# Altium footprint library DiPho_lib.PcbLib: 19 footprints (part 1 of 2)
Each footprint in its own frame and in the unit in brackets; x right, y up, seen from the top. Pads: shape width x height; smd on the part's side, far side on the other; paste and mask are expansions set on the pad; w line width, h text height; cw(c..) or ccw(c..) is an arc to the next point about the centre after c.
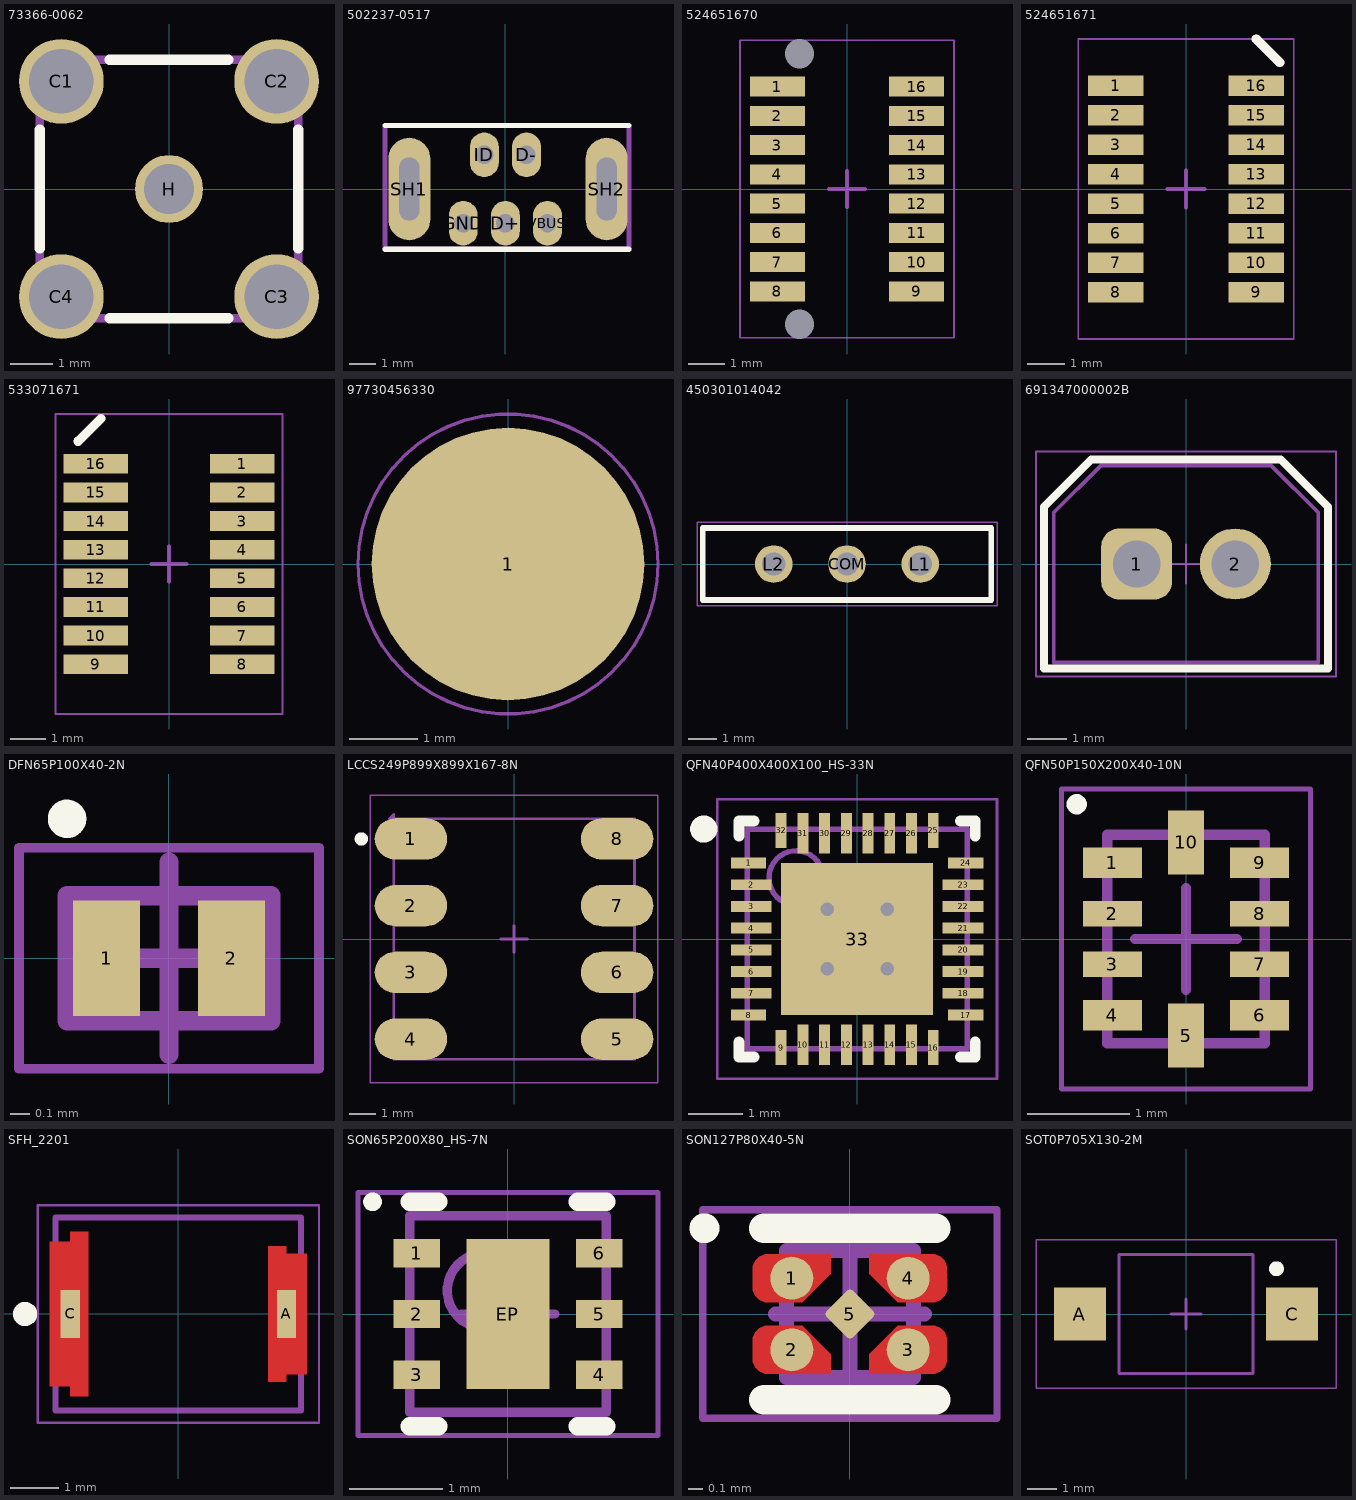
[diagram p0: the footprints below, top view; thin cyan lines are the x and y axes]

## 73366-0062 [mm] "MCX jack vertical PCB TH 50 ohms"
pads (5):
  round 2 hole 1.52: C1(-2.54,2.54) C2(2.54,2.54) C3(2.54,-2.54) C4(-2.54,-2.54)
  round 1.6 hole 1.17: H(0,0)
Top Overlay:
  lines w0.254: -3.048,-1.397 -3.048,1.397 ; -1.397,-3.048 1.397,-3.048 ; -1.397,3.048 1.397,3.048 ; 3.048,-1.397 3.048,1.397
Top Courtyard:
  lines w0.2: -3.048,-3.048 3.048,-3.048 3.048,3.048 -3.048,3.048 -3.048,-3.048
3D body "733660060.stp": height 5.6, standoff -1.56, extent -3,-3 3,3

## 502237-0517 [mm] "USB series mini-B straight receptacle assembly"
pads (7):
  rrect100% 1.1x1.7 hole 0.7: D+(0,-1.3) D-(0.8,1.3) GND(-1.6,-1.3) ID(-0.8,1.3) VBUS(1.6,-1.3)
  rrect100% 1.6x3.9 hole 0.762 slot 2.4 at 90 deg: SH1(-3.65,0) SH2(3.85,0)
Top Overlay:
  lines w0.2: -4.572,-2.286 4.699,-2.286 ; -4.572,2.413 4.699,2.413
Top Courtyard:
  lines w0.2: -4.572,-2.286 4.699,-2.286 4.699,2.413 -4.572,2.413 -4.572,-2.286
3D body "5022370517.stp": height 7.75, standoff -2.85, extent -4.075,-2.3 4.275,2.4

## 524651670 [mm] "Molex Slim Stack, 0.80mm pitch, 20ckt"
height 0.4
pads (18):
  rect 1.5x0.55 smd: 1(-1.9,2.8) 2(-1.9,2) 3(-1.9,1.2) 4(-1.9,0.4) 5(-1.9,-0.4) 6(-1.9,-1.2) 7(-1.9,-2) 8(-1.9,-2.8) 9(1.9,-2.8) 10(1.9,-2) 11(1.9,-1.2) 12(1.9,-0.4) 13(1.9,0.4) 14(1.9,1.2) 15(1.9,2) 16(1.9,2.8)
  round 0 hole 0.8: 1(-1.3,-3.7) 1(-1.3,3.7)
Mechanical 15:
  lines w0.05: -2.921,-4.064 2.921,-4.064 2.921,4.064 -2.921,4.064 -2.921,-4.064
  lines w0.1: -0.5,0 0.5,0 ; 0,-0.5 0,0.5
3D body "524651670.stp": height 3.56, standoff -0.5, extent -2.1,-4 2.1,4

## 524651671 [mm] "Molex Slim Stack, 0.80mm pitch, 20ckt"
height 0.4
pads (16):
  rect 1.5x0.55 smd: 1(-1.9,2.8) 2(-1.9,2) 3(-1.9,1.2) 4(-1.9,0.4) 5(-1.9,-0.4) 6(-1.9,-1.2) 7(-1.9,-2) 8(-1.9,-2.8) 9(1.9,-2.8) 10(1.9,-2) 11(1.9,-1.2) 12(1.9,-0.4) 13(1.9,0.4) 14(1.9,1.2) 15(1.9,2) 16(1.9,2.8)
Top Overlay:
  lines w0.254: 1.905,4.064 2.54,3.429
Mechanical 1:
  lines w0.254: 1.905,4.064 2.54,3.429
Mechanical 15:
  lines w0.05: -2.921,-4.064 2.921,-4.064 2.921,4.064 -2.921,4.064 -2.921,-4.064
  lines w0.1: -0.5,0 0.5,0 ; 0,-0.5 0,0.5
3D body "524651671.stp": height 3.56, standoff 0.01, extent -2.1,-4 2.1,4

## 533071671 [mm] "Molex Slim Stack, 0.80mm pitch, 20ckt"
height 0.4
pads (16):
  rect 1.8x0.55 smd: 1(2.05,2.8) 2(2.05,2) 3(2.05,1.2) 4(2.05,0.4) 5(2.05,-0.4) 6(2.05,-1.2) 7(2.05,-2) 8(2.05,-2.8) 9(-2.05,-2.8) 10(-2.05,-2) 11(-2.05,-1.2) 12(-2.05,-0.4) 13(-2.05,0.4) 14(-2.05,1.2) 15(-2.05,2) 16(-2.05,2.8)
Top Overlay:
  lines w0.254: -2.54,3.429 -1.905,4.064
Mechanical 1:
  lines w0.254: -2.54,3.429 -1.905,4.064
Mechanical 15:
  lines w0.05: -3.175,-4.191 3.175,-4.191 3.175,4.191 -3.175,4.191 -3.175,-4.191
  lines w0.1: -0.5,0 0.5,0 ; 0,-0.5 0,0.5
3D body "533071671.stp": height 3.67, standoff 0.02, extent -2.55,-4.1 2.55,4.1

## 97730456330 [mm] "SMT Steel Spacer with internal Thread M1.6 Bottom closed, height 4.5mm"
height 4.5
pads (1):
  round 4 smd paste-2539.97: 1(0,0)
Top Paste:
  region: -1.894,0.15 -0.15,0.15 -0.15,1.894 -0.318,1.881 -0.643,1.796 -0.949,1.655 -1.224,1.463 -1.462,1.225 -1.655,0.949 -1.796,0.643 -1.881,0.318 -1.894,0.15
  region: -0.15,-1.894 -0.15,-0.15 -1.894,-0.15 -1.881,-0.318 -1.796,-0.643 -1.655,-0.949 -1.463,-1.224 -1.225,-1.462 -0.949,-1.655 -0.643,-1.796 -0.318,-1.881 -0.15,-1.894
  region: 1.894,-0.15 0.15,-0.15 0.15,-1.894 0.318,-1.881 0.643,-1.796 0.949,-1.655 1.224,-1.463 1.462,-1.225 1.655,-0.949 1.796,-0.643 1.881,-0.318 1.894,-0.15
  region: 0.15,1.894 0.15,0.15 1.894,0.15 1.881,0.318 1.796,0.643 1.655,0.949 1.463,1.224 1.225,1.462 0.949,1.655 0.643,1.796 0.318,1.881 0.15,1.894
Top 3D Body:
  circle w0.1: c0,0 r1.65
Top Courtyard:
  circle w0.05: c0,0 r2.2
  lines w0.05: -0.5,0 0.5,0 ; 0,-0.5 0,0.5
Top Designator:
  text ".Designator" at -5.998,-0.4 h1.2
Top Component Outline:
  circle w0.1: c0,0 r1.65
3D body "97730456330.stp": height 4.5, standoff 0, extent -1.65,-1.65 1.65,1.65

## 450301014042 [mm] "THT Mini Slide Switch, body 10x2.5mm"
height 6.4
pads (3):
  round 1.3 hole 0.8: COM(0,0) L1(2.54,0) L2(-2.54,0)
Top Overlay:
  lines w0.2: -5,-1.25 5,-1.25 5,1.25 -5,1.25 -5,-1.25
Top Courtyard:
  lines w0.05: -0.5,0 0.5,0 ; 0,-0.5 0,0.5 ; -5.2,-1.45 5.2,-1.45 5.2,1.45 -5.2,1.45 -5.2,-1.45
Top Designator:
  text ".Designator" at -7.498,-0.5 h1.5
Top Component Outline:
  lines w0.1: -5,-1.25 5,-1.25 5,1.25 -5,1.25 -5,-1.25
3D body "450301014042.stp": height 6.43, standoff -4.97, extent -5,-1.25 5,1.25

## 691347000002B [mm] "Terminal block - PCB  Header, pitch 2.5mm, 2p"
height 7.5
pads (2):
  rrect50% 1.8x1.8 hole 1.2: 1(-1.25,0)
  round 1.8 hole 1.2: 2(1.25,0)
Top Overlay:
  lines w0.2: -3.6,-2.65 -3.6,1.45 -2.4,2.65 2.4,2.65 3.6,1.45 3.6,-2.65 -3.6,-2.65
Top 3D Body:
  lines w0.1: -3.35,-2.5 -3.35,1.3 -2.15,2.5 2.15,2.5 3.35,1.3 3.35,-2.5 -3.35,-2.5
Top Courtyard:
  lines w0.05: -0.5,0 0.5,0 ; 0,-0.5 0,0.5 ; -3.8,-2.85 3.8,-2.85 3.8,2.85 -3.8,2.85 -3.8,-2.85
Top Designator:
  text ".Designator" at -7.498,-0.5 h1.5
Top Component Outline:
  lines w0.1: -3.35,-2.5 3.35,-2.5 3.35,1.3 2.15,2.5 -2.15,2.5 -3.35,1.3 -3.35,-2.5
3D body "691347000002B_3D.stp": height 7.55, standoff -2.05, extent -3.35,-2.5 3.35,2.5

## DFN65P100X40-2N [mm] "DFN, 2-Leads, Body 0,60x1,00mm, Pitch 0,65mm, IPC Medium Density"
height 0.4
pads (2):
  rect 0.35x0.6 smd: 1(-0.325,0) 2(0.325,0)
Top Overlay:
  circle w0.1: c-0.53,0.725 r0.05
Top Courtyard:
  lines w0.05: -0.78,-0.575 0.78,-0.575 0.78,0.575 -0.78,0.575 -0.78,-0.575
  lines w0.1: -0.5,0 0.5,0 ; 0,-0.5 0,0.5
Mechanical 13:
  lines w0.1: -0.53,-0.325 0.53,-0.325 0.53,0.325 -0.53,0.325 -0.53,-0.325
3D body "DFN65P100X40-2N.step": height 0.4, standoff 0, extent -0.53,-0.325 0.53,0.325

## LCCS249P899X899X167-8N [mm] "LCC, 8-Pins, Body 8,99x8,99mmx1,67mm, Pitch 2,49mm, IPC Medium Density"
height 1.67
pads (8):
  oval 2.7x1.55 smd: 1(-3.85,3.735) 2(-3.85,1.245) 3(-3.85,-1.245) 4(-3.85,-3.735) 5(3.85,-3.735) 6(3.85,-1.245) 7(3.85,1.245) 8(3.85,3.735)
Top Overlay:
  circle w0.25: c-5.7,3.735 r0.125
Mechanical 13:
  circle w0.1: c-3.595,3.595 r0.5
  lines w0.1: -4.65,4.495 4.495,4.495 4.495,-4.495 -4.495,-4.495 -4.495,4.65 -4.65,4.495
Mechanical 15:
  lines w0.05: -5.375,-5.375 -5.375,5.375 5.375,5.375 5.375,-5.375 -5.375,-5.375
  lines w0.1: -0.5,0 0.5,0 ; 0,-0.5 0,0.5
3D body "OPR5913.STEP": height 1.57, standoff -0.01, extent -4.496,-4.496 4.496,4.496

## QFN40P400X400X100_HS-33N [mm] "QFN, 32-Leads, Body 4,00x4,00mm, Pitch 0,40mm, Thermal Pad 2,80x2,80mm, IPC Medium Density"
height 1
pads (33):
  rect 0.65x0.2 smd: 1(-2,1.4) 8(-2,-1.4) 17(2,-1.4) 24(2,1.4)
  rect 0.75x0.2 smd: 2(-1.95,1) 3(-1.95,0.6) 4(-1.95,0.2) 5(-1.95,-0.2) 6(-1.95,-0.6) 7(-1.95,-1) 18(1.95,-1) 19(1.95,-0.6) 20(1.95,-0.2) 21(1.95,0.2) 22(1.95,0.6) 23(1.95,1)
  rect 0.2x0.65 smd: 9(-1.4,-2) 16(1.4,-2) 25(1.4,2) 32(-1.4,2)
  rect 0.2x0.75 smd: 10(-1,-1.95) 11(-0.6,-1.95) 12(-0.2,-1.95) 13(0.2,-1.95) 14(0.6,-1.95) 15(1,-1.95) 26(1,1.95) 27(0.6,1.95) 28(0.2,1.95) 29(-0.2,1.95) 30(-0.6,1.95) 31(-1,1.95)
  rect 2.8x2.8 smd: 33(0,0)
via 0.55,-0.55 diameter 0.5 hole 0.25
via -0.55,-0.55 diameter 0.5 hole 0.25
via 0.55,0.55 diameter 0.5 hole 0.25
via -0.55,0.55 diameter 0.5 hole 0.25
Top Overlay:
  circle w0.25: c-2.825,2.025 r0.125
  lines w0.2: -2.175,-1.9 -2.175,-2.175 -1.9,-2.175 ; -2.175,1.9 -2.175,2.175 -1.9,2.175 ; 1.9,-2.175 2.175,-2.175 2.175,-1.9 ; 1.9,2.175 2.175,2.175 2.175,1.9
Top Courtyard:
  lines w0.05: -2.575,-2.575 2.575,-2.575 2.575,2.575 -2.575,2.575 -2.575,-2.575
  lines w0.1: -0.5,0 0.5,0 ; 0,-0.5 0,0.5
Mechanical 13:
  circle w0.1: c-1.125,1.125 r0.5
  lines w0.1: -2.025,-2.025 2.025,-2.025 2.025,2.025 -2.025,2.025 -2.025,-2.025
3D body "QFN40P400X400X100_HS-33N.step": height 1, standoff 0, extent -2.026,-2.026 2.026,2.026

## QFN50P150X200X40-10N [mm] "QFN, 10-Leads, Body 1,50x2,00mm, Pitch 0,50mm, IPC Medium Density"
height 0.4
pads (10):
  rect 0.58x0.3 smd: 1(-0.725,0.75) 4(-0.725,-0.75) 6(0.725,-0.75) 9(0.725,0.75)
  rect 0.58x0.25 smd: 2(-0.725,0.25) 3(-0.725,-0.25) 7(0.725,-0.25) 8(0.725,0.25)
  rect 0.35x0.63 smd: 5(0,-0.95) 10(0,0.95)
Top Overlay:
  circle w0.1: c-1.075,1.325 r0.05
Mechanical 13:
  lines w0.1: -0.775,-1.025 -0.775,1.025 0.775,1.025 0.775,-1.025 -0.775,-1.025
Mechanical 15:
  lines w0.05: -1.225,-1.475 -1.225,1.475 1.225,1.475 1.225,-1.475 -1.225,-1.475
  lines w0.1: -0.5,0 0.5,0 ; 0,-0.5 0,0.5
3D body "QFN50P150X200X40-10N.step": height 0.4, standoff 0, extent -0.776,-1.026 0.776,1.026

## SFH_2201 [mm]
pads (2):
  rect 0.4x1 smd paste-1 mask+0: A(2.24,0) C(-2.24,0)
Top Layer:
  region: -1.865,-1.7 -2.235,-1.7 -2.235,-1.5 -2.665,-1.5 -2.665,0 -2.665,1.5 -2.235,1.5 -2.235,1.7 -1.865,1.7
  region: 2.235,1.25 2.665,1.25 2.665,-1.25 2.235,-1.25 2.235,-1.4 1.865,-1.4 1.865,1.4 2.235,1.4
Top Overlay:
  circle w0.25: c-3.175,0 r0.125
Top Paste:
  region: -1.965,0.15 -2.565,0.15 -2.565,1.15 -1.965,1.15
  region: -1.965,-1.15 -2.565,-1.15 -2.565,-0.15 -1.965,-0.15
  region: 2.565,-1.2 1.965,-1.2 1.965,-0.2 2.565,-0.2
  region: 2.565,0.2 1.965,0.2 1.965,1.2 2.565,1.2
Top Solder:
  region: -1.815,-1.75 -2.285,-1.75 -2.285,-1.55 -2.715,-1.55 -2.715,1.55 -2.285,1.55 -2.285,1.75 -1.815,1.75
  region: 2.285,1.3 2.715,1.3 2.715,-1.3 2.285,-1.3 2.285,-1.45 1.815,-1.45 1.815,1.45 2.285,1.45
Mechanical 13:
  lines w0.127: -2.545,-2 2.545,-2 2.545,2 -2.545,2 -2.545,-2
Mechanical 15:
  lines w0.05: -2.915,-2.25 2.915,-2.25 2.915,2.25 -2.915,2.25 -2.915,-2.25
3D body "SFH_2201_20190902_geometry.SLDPRT": height 0.85, standoff 0, extent -2.545,-2 2.545,2

## SON65P200X80_HS-7N [mm] "SON, 6-Leads, Body 2,00x2,00mm, Pitch 0,65mm, Thermal Pad 1,60x0,89mm, IPC Medium Density"
height 0.8
pads (7):
  rect 0.5x0.3 smd: 1(-0.975,0.65) 2(-0.975,0) 3(-0.975,-0.65) 4(0.975,-0.65) 5(0.975,0) 6(0.975,0.65)
  rect 0.89x1.6 smd: EP(0,0)
Top Overlay:
  circle w0.1: c-1.45,1.2 r0.05
  lines w0.2: -1.05,-1.2 -0.745,-1.2 ; -1.05,1.2 -0.745,1.2 ; 0.745,-1.2 1.05,-1.2 ; 0.745,1.2 1.05,1.2
Top Courtyard:
  lines w0.05: -1.605,-1.3 1.605,-1.3 1.605,1.3 -1.605,1.3 -1.605,-1.3
  lines w0.1: -0.5,0 0.5,0 ; 0,-0.5 0,0.5
Mechanical 13:
  circle w0.1: c-0.25,0.25 r0.4
  lines w0.1: -1.05,-1.05 1.05,-1.05 1.05,1.05 -1.05,1.05 -1.05,-1.05
3D body "SON65P200X80_HS-7N.step": height 0.8, standoff 0, extent -1.051,-1.05 1.051,1.05

## SON127P80X40-5N [mm] "SON, 0-Leads, Body 0,80x0,80mm, Pitch 1,27mm, IPC Medium Density"
height 0.4
pads (5):
  round 0.288 smd paste-1000 mask-1000: 1(-0.39,0.24) 2(-0.39,-0.24) 3(0.39,-0.24) 4(0.39,0.24)
  rrect25% 0.25x0.25 smd rot 135 paste-1000 mask-1000: 5(0,0)
Top Layer:
  region: 0.65,0.3 0.65,0.32 0.635,0.357 0.607,0.385 0.57,0.4 0.55,0.4 0.13,0.4 0.13,0.269 0.319,0.08 0.55,0.08 0.57,0.08 0.607,0.095 0.635,0.123 0.65,0.16 0.65,0.18
  region: -0.65,-0.3 -0.65,-0.32 -0.635,-0.357 -0.607,-0.385 -0.57,-0.4 -0.55,-0.4 -0.13,-0.4 -0.13,-0.269 -0.319,-0.08 -0.55,-0.08 -0.57,-0.08 -0.607,-0.095 -0.635,-0.123 -0.65,-0.16 -0.65,-0.18
  region: -0.65,0.3 -0.65,0.32 -0.635,0.357 -0.607,0.385 -0.57,0.4 -0.55,0.4 -0.13,0.4 -0.13,0.269 -0.319,0.08 -0.55,0.08 -0.57,0.08 -0.607,0.095 -0.635,0.123 -0.65,0.16 -0.65,0.18
  region: 0.65,-0.3 0.65,-0.32 0.635,-0.357 0.607,-0.385 0.57,-0.4 0.55,-0.4 0.13,-0.4 0.13,-0.269 0.319,-0.08 0.55,-0.08 0.57,-0.08 0.607,-0.095 0.635,-0.123 0.65,-0.16 0.65,-0.18
Top Overlay:
  circle w0.1: c-0.975,0.575 r0.05
  lines w0.2: -0.575,-0.575 0.575,-0.575 ; -0.575,0.575 0.575,0.575
Mechanical 13:
  lines w0.1: -0.425,-0.425 -0.425,0.425 0.425,0.425 0.425,-0.425 -0.425,-0.425
Mechanical 15:
  lines w0.05: -0.985,-0.7 -0.985,0.7 0.985,0.7 0.985,-0.7 -0.985,-0.7
  lines w0.1: -0.5,0 0.5,0 ; 0,-0.5 0,0.5
3D body "IC_Texas_Instruments_TLV809EA46DPWR_eec.STEP": height 0.25, standoff 0, extent -0.75,-0.525 0.75,0.525

## SOT0P705X130-2M [mm] "SOT223, 2-Leads, Body 3,90x7,05mm (avg), Pitch 0,00mm, IPC Low Density"
height 1.3
pads (2):
  rect 1.75x1.8 smd: A(-3.575,0) C(3.575,0)
Top Overlay:
  circle w0.25: c3.048,1.524 r0.125
Mechanical 13:
  lines w0.1: -2.25,-2 -2.25,2 2.25,2 2.25,-2 -2.25,-2
Mechanical 15:
  lines w0.05: -5.05,-2.5 -5.05,2.5 5.05,2.5 5.05,-2.5 -5.05,-2.5
  lines w0.1: -0.5,0 0.5,0 ; 0,-0.5 0,0.5
3D body "SOT0P705X130-2M.step": height 1.3, standoff 0, extent -3.525,-2 3.525,2